# EAGLE library part 73725-X1X0B (library con-usb)
TYPE-A Vertical Receptacle, FCI
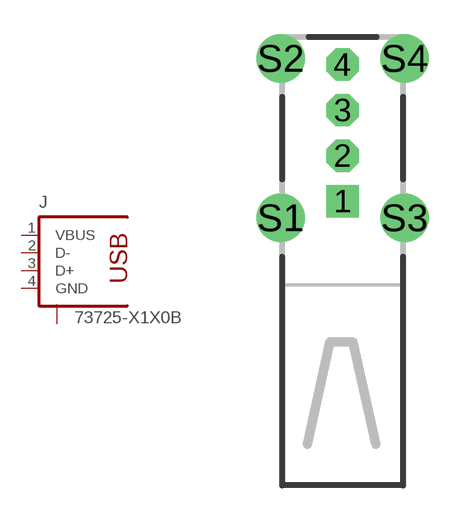
[diagram p3: symbol with the pads of 73725-X1X0B; footprint 73725-X1X0B]

Designator prefix J

## 73725-X1X0B  [73725-X1X0B]
1  VBUS  pas
2  D-  pas
3  D+  pas
4  GND  pas
S1  S1  pas
S2  S2  pas
S3  S3  pas
S4  S4  pas

## Footprint 73725-X1X0B (pad centres in mm)
FCI - 73725 Series
drill 0.914 square: 1 0,0.73
drill 0.914 octagon: 2 0,2.73; 3 0,4.73; 4 0,6.73
drill 1.422: S1 -2.72,0; S2 -2.72,7; S3 2.72,0; S4 2.72,7